# Altium footprint library MC.PcbLib: 22 footprints (part 2 of 2)
Each footprint in its own frame and in the unit in brackets; x right, y up, seen from the top. Pads: shape width x height; smd on the part's side, far side on the other; paste and mask are expansions set on the pad; w line width, h text height; cw(c..) or ccw(c..) is an arc to the next point about the centre after c.
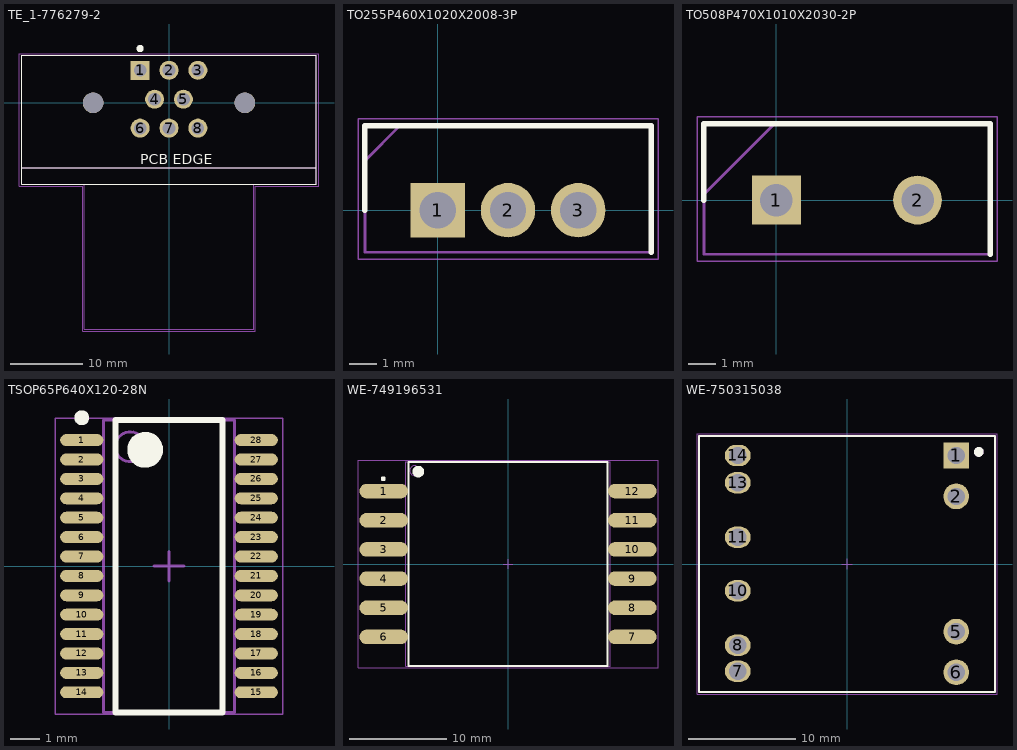
[diagram p1: the footprints below, top view; thin cyan lines are the x and y axes]

## TE_1-776279-2 [mm]
pads (10):
  rect 2.625x2.625 hole 1.75: 1(-4,4.5)
  round 2.625 hole 1.75: 2(0,4.5) 3(4,4.5) 4(-2,0.5) 5(2,0.5) 6(-4,-3.5) 7(0,-3.5) 8(4,-3.5)
  round 2.85 hole 2.85 unplated: ""(-10.5,0) ""(10.5,0)
Top Overlay:
  circle w0.5: c-4,7.5 r0.25
  lines w0.127: -20.4,-9 20.4,-9 ; -20.4,-9 -20.4,6.55 20.4,6.55 20.4,-9 ; -20.4,-9 -20.4,-11.3 11.7,-11.3 20.4,-11.3 20.4,-9
  text "PCB EDGE" at -4.006,-8.512 h1.42
Mechanical 13:
  lines w0.127: -20.4,-9 20.4,-9 ; -20.4,-9 -20.4,6.55 20.4,6.55 20.4,-9 ; -20.4,-9 -20.4,-11.3 -11.7,-11.3 ; -11.7,-11.3 -11.7,-31.35 11.7,-31.35 11.7,-11.3 ; -11.7,-11.3 11.7,-11.3 ; 11.7,-11.3 20.4,-11.3 20.4,-9
  text "PCB EDGE" at -4.006,-8.513 h1.42
Mechanical 15:
  lines w0.05: -20.75,-11.55 -11.95,-11.55 -11.95,-31.6 11.95,-31.6 11.95,-11.55 20.75,-11.55 20.75,6.8 -20.75,6.8 -20.75,-11.55
3D body "1-776279-2--3DModel-STEP-1.STEP": height 28.05, standoff -4.05, extent -20.4,-31.196 20.4,6.604

## TO255P460X1020X2008-3P [mm]
pads (3):
  rect 1.98x1.98 hole 1.32: 1(0,0)
  round 1.98 hole 1.32: 2(2.55,0) 3(5.1,0)
Top Overlay:
  lines w0.2: -2.65,0 -2.65,3.07 7.75,3.07 7.75,-1.53
Mechanical 13:
  lines w0.1: -2.65,1.795 -1.375,3.07 ; -2.65,-1.53 7.75,-1.53 7.75,3.07 -2.65,3.07 -2.65,-1.53
Mechanical 15:
  lines w0.05: -2.9,-1.78 8,-1.78 8,3.32 -2.9,3.32 -2.9,-1.78
3D body "STP110N10F7.stp": height 19.21, standoff -18.2, extent -2.55,-1.53 7.65,3.07

## TO508P470X1010X2030-2P [mm]
pads (2):
  rect 1.755x1.755 hole 1.17: 1(0,0)
  round 1.755 hole 1.17: 2(5.08,0)
Top Overlay:
  lines w0.2: -2.61,0 -2.61,2.75 7.69,2.75 7.69,-1.95
Mechanical 13:
  lines w0.1: -2.61,0.21 -0.07,2.75 ; -2.61,-1.95 -2.61,2.75 7.69,2.75 7.69,-1.95 -2.61,-1.95
Mechanical 15:
  lines w0.05: -2.86,-2.2 -2.86,3 7.94,3 7.94,-2.2 -2.86,-2.2
3D body "PF2203-0R2F1.stp": height 19, standoff -18, extent -2.51,-1.95 7.59,2.75

## TSOP65P640X120-28N [mm] "TSOP, 28-Leads, Body 9.70x4.40mm, Pitch 0.65mm, IPC Medium Density"
height 1.2
pads (28):
  oval 1.45x0.4 smd: 1(-2.925,4.225) 2(-2.925,3.575) 3(-2.925,2.925) 4(-2.925,2.275) 5(-2.925,1.625) 6(-2.925,0.975) 7(-2.925,0.325) 8(-2.925,-0.325) 9(-2.925,-0.975) 10(-2.925,-1.625) 11(-2.925,-2.275) 12(-2.925,-2.925) 13(-2.925,-3.575) 14(-2.925,-4.225) 15(2.925,-4.225) 16(2.925,-3.575) 17(2.925,-2.925) 18(2.925,-2.275) 19(2.925,-1.625) 20(2.925,-0.975) 21(2.925,-0.325) 22(2.925,0.325) 23(2.925,0.975) 24(2.925,1.625) 25(2.925,2.275) 26(2.925,2.925) 27(2.925,3.575) 28(2.925,4.225)
Top Overlay:
  circle w0.6: c-0.8,3.9 r0.3
  circle w0.25: c-2.925,4.975 r0.125
  lines w0.2: -1.8,-4.9 1.8,-4.9 1.8,4.9 -1.8,4.9 -1.8,-4.9
Mechanical 13:
  circle w0.1: c-1.3,4 r0.5
  lines w0.1: -2.2,-4.9 2.2,-4.9 2.2,4.9 -2.2,4.9 -2.2,-4.9
Mechanical 15:
  lines w0.05: -3.81,-4.953 3.81,-4.953 3.81,4.953 -3.81,4.953 -3.81,-4.953
  lines w0.1: -0.5,0 0.5,0 ; 0,-0.5 0,0.5
3D body: height 1.2, standoff 0.1, extent -2.2,-4.9 2.2,4.9

## WE-749196531 [mm]
height 10.8
pads (12):
  oval 5x1.5 smd: 1(-12.775,7.5) 2(-12.775,4.5) 3(-12.775,1.5) 4(-12.775,-1.5) 5(-12.775,-4.5) 6(-12.775,-7.5) 7(12.775,-7.5) 8(12.775,-4.5) 9(12.775,-1.5) 10(12.775,1.5) 11(12.775,4.5) 12(12.775,7.5)
Top Overlay:
  circle w0.6: c-9.225,9.5 r0.3
  circle w0.25: c-12.827,8.763 r0.125
  lines w0.2: -10.225,-10.5 10.225,-10.5 10.225,10.5 -10.225,10.5 -10.225,-10.5
Mechanical 13:
  circle w0.1: c-9.6,9.6 r0.5
  lines w0.1: -10.5,-10.5 10.5,-10.5 10.5,10.5 -10.5,10.5 -10.5,-10.5
Mechanical 15:
  lines w0.05: -15.425,-10.668 15.425,-10.668 15.425,10.668 -15.425,10.668 -15.425,-10.668
  lines w0.1: -0.5,0 0.5,0 ; 0,-0.5 0,0.5
3D body "749196531_Download_STP_749196531_rev1.stp": height 10.75, standoff -0.05, extent -14.75,-10.5 14.75,10.5

## WE-750315038 [mm]
height 24.14
pads (10):
  rect 2.4x2.4 hole 1.6: 1(10.19,10.12)
  round 2.4 hole 1.6: 2(10.19,6.31) 5(10.19,-6.31) 6(10.19,-10.1)
  oval 2.4x2 hole 1.6: 7(-10.19,-10) 8(-10.19,-7.58) 10(-10.19,-2.5) 11(-10.19,2.5) 13(-10.19,7.58) 14(-10.19,10.12)
Top Overlay:
  circle w0.5: c12.29,10.45 r0.2
  lines w0.2: -13.79,-11.95 -13.79,11.95 13.79,11.95 13.79,-11.95 -13.79,-11.95
Mechanical 13:
  circle w0.5: c12.29,10.45 r0.2
  lines w0.1: -13.79,-11.95 13.79,-11.95 13.79,11.95 -13.79,11.95 -13.79,-11.95
Mechanical 15:
  lines w0.05: -0.5,0 0.5,0 ; 0,-0.5 0,0.5 ; -13.99,-12.15 -13.99,12.15 13.99,12.15 13.99,-12.15 -13.99,-12.15
3D body "PQ2020STP.STEP": height 22.1, standoff -5.92, extent -11.58,-11.575 11.58,11.575